# Altium integrated library Intersil DSP 24-Bit.IntLib: 10 symbols
Pins are listed as number, name and electrical type; pins without a type are passive.

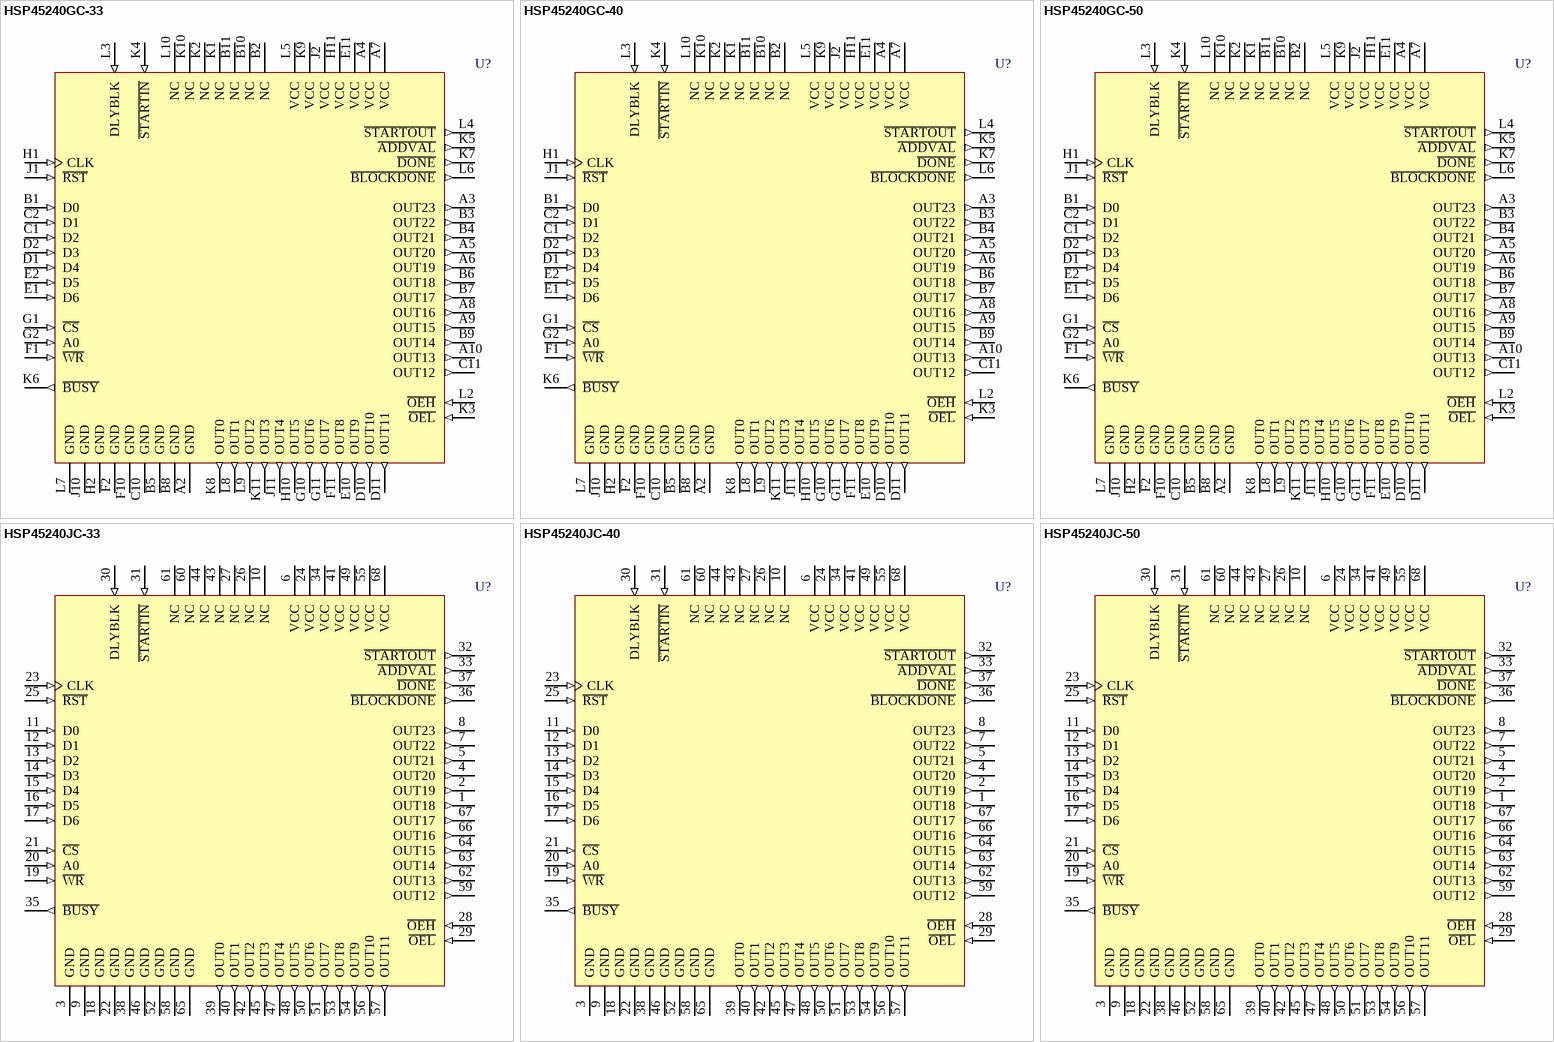
[diagram p0: symbols HSP45240GC-33 to HSP45240JC-50]

## HSP45240GC-33
designator U?
Address Sequencer; Published: 17-Jul-2002; LatestRevisionDate: 06-Jun-2005; LatestRevisionNote: Stylized 3D Model Added.; DatasheetVersion: Sep-1997; PackageVersion: Jun-1995; PackageReference: G68.A; Publisher: Altium Limited; PackageDescription: 68-Pin Pin Grid Array 2.54 mm Pitch; ComponentLink1Description: Manufacturer Link; ComponentLink1URL: http://www.intersil.com/cda/home/
footprint G68.A (PGA, 68-Leads, Body 29.5x29.5mm, Pitch 2.54mm)
3D model HSP45240-G68_A (68-Pin Pin Grid Array 2.54 mm Pitch)
pins: A2 GND (power), A3 OUT23 (out), A4 VCC (power), A5 OUT20 (out), A6 OUT19 (out), A7 VCC (power), A8 OUT16 (out), A9 OUT15 (out), A10 OUT13 (out), B1 D0 (in), B2 NC, B3 OUT22 (out), B4 OUT21 (out), B5 GND (power), B6 OUT18 (out), B7 OUT17 (out), B8 GND (power), B9 OUT14 (out), B10 NC, B11 NC, C1 D2 (in), C2 D1 (in), C10 GND (power), C11 OUT12 (out), D1 D4 (in), D2 D3 (in), D10 OUT10 (out), D11 OUT11 (out), E1 D6 (in), E2 D5 (in), E10 OUT9 (out), E11 VCC (power), F1 ~{WR} (in), F2 GND (power), F10 GND (power), F11 OUT8 (out), G1 ~{CS} (in), G2 A0 (in), G10 OUT6 (out), G11 OUT7 (out), H1 CLK (in), H2 GND (power), H10 OUT5 (out), H11 VCC (power), J1 ~{RST} (in), J2 VCC (power), J10 GND (power), J11 OUT4 (out), K1 NC, K2 NC, K3 ~{OEL} (in), K4 ~{STARTIN} (in), K5 ~{ADDVAL} (out), K6 ~{BUSY} (out), K7 ~{DONE} (out), K8 OUT0 (out), K9 VCC (power), K10 NC, K11 OUT3 (out), L2 ~{OEH} (in), L3 DLYBLK (in), L4 ~{STARTOUT} (out), L5 VCC (power), L6 ~{BLOCKDONE} (out), L7 GND (power), L8 OUT1 (out), L9 OUT2 (out), L10 NC

## HSP45240GC-40
designator U?
Address Sequencer; Published: 17-Jul-2002; LatestRevisionDate: 06-Jun-2005; LatestRevisionNote: Stylized 3D Model Added.; DatasheetVersion: Sep-1997; PackageVersion: Jun-1995; PackageReference: G68.A; Publisher: Altium Limited; PackageDescription: 68-Pin Pin Grid Array 2.54 mm Pitch; ComponentLink1Description: Manufacturer Link; ComponentLink1URL: http://www.intersil.com/cda/home/
footprint G68.A (PGA, 68-Leads, Body 29.5x29.5mm, Pitch 2.54mm)
3D model HSP45240-G68_A (68-Pin Pin Grid Array 2.54 mm Pitch)
pins: A2 GND (power), A3 OUT23 (out), A4 VCC (power), A5 OUT20 (out), A6 OUT19 (out), A7 VCC (power), A8 OUT16 (out), A9 OUT15 (out), A10 OUT13 (out), B1 D0 (in), B2 NC, B3 OUT22 (out), B4 OUT21 (out), B5 GND (power), B6 OUT18 (out), B7 OUT17 (out), B8 GND (power), B9 OUT14 (out), B10 NC, B11 NC, C1 D2 (in), C2 D1 (in), C10 GND (power), C11 OUT12 (out), D1 D4 (in), D2 D3 (in), D10 OUT10 (out), D11 OUT11 (out), E1 D6 (in), E2 D5 (in), E10 OUT9 (out), E11 VCC (power), F1 ~{WR} (in), F2 GND (power), F10 GND (power), F11 OUT8 (out), G1 ~{CS} (in), G2 A0 (in), G10 OUT6 (out), G11 OUT7 (out), H1 CLK (in), H2 GND (power), H10 OUT5 (out), H11 VCC (power), J1 ~{RST} (in), J2 VCC (power), J10 GND (power), J11 OUT4 (out), K1 NC, K2 NC, K3 ~{OEL} (in), K4 ~{STARTIN} (in), K5 ~{ADDVAL} (out), K6 ~{BUSY} (out), K7 ~{DONE} (out), K8 OUT0 (out), K9 VCC (power), K10 NC, K11 OUT3 (out), L2 ~{OEH} (in), L3 DLYBLK (in), L4 ~{STARTOUT} (out), L5 VCC (power), L6 ~{BLOCKDONE} (out), L7 GND (power), L8 OUT1 (out), L9 OUT2 (out), L10 NC

## HSP45240GC-50
designator U?
Address Sequencer; Published: 17-Jul-2002; LatestRevisionDate: 06-Jun-2005; LatestRevisionNote: Stylized 3D Model Added.; DatasheetVersion: Sep-1997; PackageVersion: Jun-1995; PackageReference: G68.A; Publisher: Altium Limited; PackageDescription: 68-Pin Pin Grid Array 2.54 mm Pitch; ComponentLink1Description: Manufacturer Link; ComponentLink1URL: http://www.intersil.com/cda/home/
footprint G68.A (PGA, 68-Leads, Body 29.5x29.5mm, Pitch 2.54mm)
3D model HSP45240-G68_A (68-Pin Pin Grid Array 2.54 mm Pitch)
pins: A2 GND (power), A3 OUT23 (out), A4 VCC (power), A5 OUT20 (out), A6 OUT19 (out), A7 VCC (power), A8 OUT16 (out), A9 OUT15 (out), A10 OUT13 (out), B1 D0 (in), B2 NC, B3 OUT22 (out), B4 OUT21 (out), B5 GND (power), B6 OUT18 (out), B7 OUT17 (out), B8 GND (power), B9 OUT14 (out), B10 NC, B11 NC, C1 D2 (in), C2 D1 (in), C10 GND (power), C11 OUT12 (out), D1 D4 (in), D2 D3 (in), D10 OUT10 (out), D11 OUT11 (out), E1 D6 (in), E2 D5 (in), E10 OUT9 (out), E11 VCC (power), F1 ~{WR} (in), F2 GND (power), F10 GND (power), F11 OUT8 (out), G1 ~{CS} (in), G2 A0 (in), G10 OUT6 (out), G11 OUT7 (out), H1 CLK (in), H2 GND (power), H10 OUT5 (out), H11 VCC (power), J1 ~{RST} (in), J2 VCC (power), J10 GND (power), J11 OUT4 (out), K1 NC, K2 NC, K3 ~{OEL} (in), K4 ~{STARTIN} (in), K5 ~{ADDVAL} (out), K6 ~{BUSY} (out), K7 ~{DONE} (out), K8 OUT0 (out), K9 VCC (power), K10 NC, K11 OUT3 (out), L2 ~{OEH} (in), L3 DLYBLK (in), L4 ~{STARTOUT} (out), L5 VCC (power), L6 ~{BLOCKDONE} (out), L7 GND (power), L8 OUT1 (out), L9 OUT2 (out), L10 NC

## HSP45240JC-33
designator U?
Address Sequencer; Published: 17-Jul-2002; LatestRevisionDate: 13-Apr-2006; LatestRevisionNote: IPC-7351 Footprint Added.; DatasheetVersion: Sep-1997; PackageVersion: Nov-1997; PackageReference: N68.95; Publisher: Altium Limited; PackageDescription: 68-Pin Leaded Chip Carrier 1.27 mm Pitch; Code_IPC: PLCC-68; ComponentLink1Description: Manufacturer Link; ComponentLink1URL: http://www.intersil.com/cda/home/
footprint N68.95_N (Leaded Chip Carrier, 68-Leads, Body 24x24mm, Pitch 1.27mm, IPC Medium Density)
footprint N68.95_L (Leaded Chip Carrier, 68-Leads, Body 24x24mm, Pitch 1.27mm, IPC High Density)
footprint N68.95_M (Leaded Chip Carrier, 68-Leads, Body 24x24mm, Pitch 1.27mm, IPC Low Density)
3D model HSP45240-N68_95 (68-Pin Leaded Chip Carrier 1.27 mm Pitch)
pins: 1 OUT18 (out), 2 OUT19 (out), 3 GND (power), 4 OUT20 (out), 5 OUT21 (out), 6 VCC (power), 7 OUT22 (out), 8 OUT23 (out), 9 GND (power), 10 NC, 11 D0 (in), 12 D1 (in), 13 D2 (in), 14 D3 (in), 15 D4 (in), 16 D5 (in), 17 D6 (in), 18 GND (power), 19 ~{WR} (in), 20 A0 (in), 21 ~{CS} (in), 22 GND (power), 23 CLK (in), 24 VCC (power), 25 ~{RST} (in), 26 NC, 27 NC, 28 ~{OEH} (in), 29 ~{OEL} (in), 30 DLYBLK (in), 31 ~{STARTIN} (in), 32 ~{STARTOUT} (out), 33 ~{ADDVAL} (out), 34 VCC (power), 35 ~{BUSY} (out), 36 ~{BLOCKDONE} (out), 37 ~{DONE} (out), 38 GND (power), 39 OUT0 (out), 40 OUT1 (out), 41 VCC (power), 42 OUT2 (out), 43 NC, 44 NC, 45 OUT3 (out), 46 GND (power), 47 OUT4 (out), 48 OUT5 (out), 49 VCC (power), 50 OUT6 (out), 51 OUT7 (out), 52 GND (power), 53 OUT8 (out), 54 OUT9 (out), 55 VCC (power), 56 OUT10 (out), 57 OUT11 (out), 58 GND (power), 59 OUT12 (out), 60 NC, 61 NC, 62 OUT13 (out), 63 OUT14 (out), 64 OUT15 (out), 65 GND (power), 66 OUT16 (out), 67 OUT17 (out), 68 VCC (power)

## HSP45240JC-40
designator U?
Address Sequencer; Published: 17-Jul-2002; LatestRevisionDate: 13-Apr-2006; LatestRevisionNote: IPC-7351 Footprint Added.; DatasheetVersion: Sep-1997; PackageVersion: Nov-1997; PackageReference: N68.95; Publisher: Altium Limited; PackageDescription: 68-Pin Leaded Chip Carrier 1.27 mm Pitch; Code_IPC: PLCC-68; ComponentLink1Description: Manufacturer Link; ComponentLink1URL: http://www.intersil.com/cda/home/
footprint N68.95_N (Leaded Chip Carrier, 68-Leads, Body 24x24mm, Pitch 1.27mm, IPC Medium Density)
footprint N68.95_L (Leaded Chip Carrier, 68-Leads, Body 24x24mm, Pitch 1.27mm, IPC High Density)
footprint N68.95_M (Leaded Chip Carrier, 68-Leads, Body 24x24mm, Pitch 1.27mm, IPC Low Density)
3D model HSP45240-N68_95 (68-Pin Leaded Chip Carrier 1.27 mm Pitch)
pins: 1 OUT18 (out), 2 OUT19 (out), 3 GND (power), 4 OUT20 (out), 5 OUT21 (out), 6 VCC (power), 7 OUT22 (out), 8 OUT23 (out), 9 GND (power), 10 NC, 11 D0 (in), 12 D1 (in), 13 D2 (in), 14 D3 (in), 15 D4 (in), 16 D5 (in), 17 D6 (in), 18 GND (power), 19 ~{WR} (in), 20 A0 (in), 21 ~{CS} (in), 22 GND (power), 23 CLK (in), 24 VCC (power), 25 ~{RST} (in), 26 NC, 27 NC, 28 ~{OEH} (in), 29 ~{OEL} (in), 30 DLYBLK (in), 31 ~{STARTIN} (in), 32 ~{STARTOUT} (out), 33 ~{ADDVAL} (out), 34 VCC (power), 35 ~{BUSY} (out), 36 ~{BLOCKDONE} (out), 37 ~{DONE} (out), 38 GND (power), 39 OUT0 (out), 40 OUT1 (out), 41 VCC (power), 42 OUT2 (out), 43 NC, 44 NC, 45 OUT3 (out), 46 GND (power), 47 OUT4 (out), 48 OUT5 (out), 49 VCC (power), 50 OUT6 (out), 51 OUT7 (out), 52 GND (power), 53 OUT8 (out), 54 OUT9 (out), 55 VCC (power), 56 OUT10 (out), 57 OUT11 (out), 58 GND (power), 59 OUT12 (out), 60 NC, 61 NC, 62 OUT13 (out), 63 OUT14 (out), 64 OUT15 (out), 65 GND (power), 66 OUT16 (out), 67 OUT17 (out), 68 VCC (power)

## HSP45240JC-50
designator U?
Address Sequencer; Published: 17-Jul-2002; LatestRevisionDate: 13-Apr-2006; LatestRevisionNote: IPC-7351 Footprint Added.; DatasheetVersion: Sep-1997; PackageVersion: Nov-1997; PackageReference: N68.95; Publisher: Altium Limited; PackageDescription: 68-Pin Leaded Chip Carrier 1.27 mm Pitch; Code_IPC: PLCC-68; ComponentLink1Description: Manufacturer Link; ComponentLink1URL: http://www.intersil.com/cda/home/
footprint N68.95_N (Leaded Chip Carrier, 68-Leads, Body 24x24mm, Pitch 1.27mm, IPC Medium Density)
footprint N68.95_L (Leaded Chip Carrier, 68-Leads, Body 24x24mm, Pitch 1.27mm, IPC High Density)
footprint N68.95_M (Leaded Chip Carrier, 68-Leads, Body 24x24mm, Pitch 1.27mm, IPC Low Density)
3D model HSP45240-N68_95 (68-Pin Leaded Chip Carrier 1.27 mm Pitch)
pins: 1 OUT18 (out), 2 OUT19 (out), 3 GND (power), 4 OUT20 (out), 5 OUT21 (out), 6 VCC (power), 7 OUT22 (out), 8 OUT23 (out), 9 GND (power), 10 NC, 11 D0 (in), 12 D1 (in), 13 D2 (in), 14 D3 (in), 15 D4 (in), 16 D5 (in), 17 D6 (in), 18 GND (power), 19 ~{WR} (in), 20 A0 (in), 21 ~{CS} (in), 22 GND (power), 23 CLK (in), 24 VCC (power), 25 ~{RST} (in), 26 NC, 27 NC, 28 ~{OEH} (in), 29 ~{OEL} (in), 30 DLYBLK (in), 31 ~{STARTIN} (in), 32 ~{STARTOUT} (out), 33 ~{ADDVAL} (out), 34 VCC (power), 35 ~{BUSY} (out), 36 ~{BLOCKDONE} (out), 37 ~{DONE} (out), 38 GND (power), 39 OUT0 (out), 40 OUT1 (out), 41 VCC (power), 42 OUT2 (out), 43 NC, 44 NC, 45 OUT3 (out), 46 GND (power), 47 OUT4 (out), 48 OUT5 (out), 49 VCC (power), 50 OUT6 (out), 51 OUT7 (out), 52 GND (power), 53 OUT8 (out), 54 OUT9 (out), 55 VCC (power), 56 OUT10 (out), 57 OUT11 (out), 58 GND (power), 59 OUT12 (out), 60 NC, 61 NC, 62 OUT13 (out), 63 OUT14 (out), 64 OUT15 (out), 65 GND (power), 66 OUT16 (out), 67 OUT17 (out), 68 VCC (power)

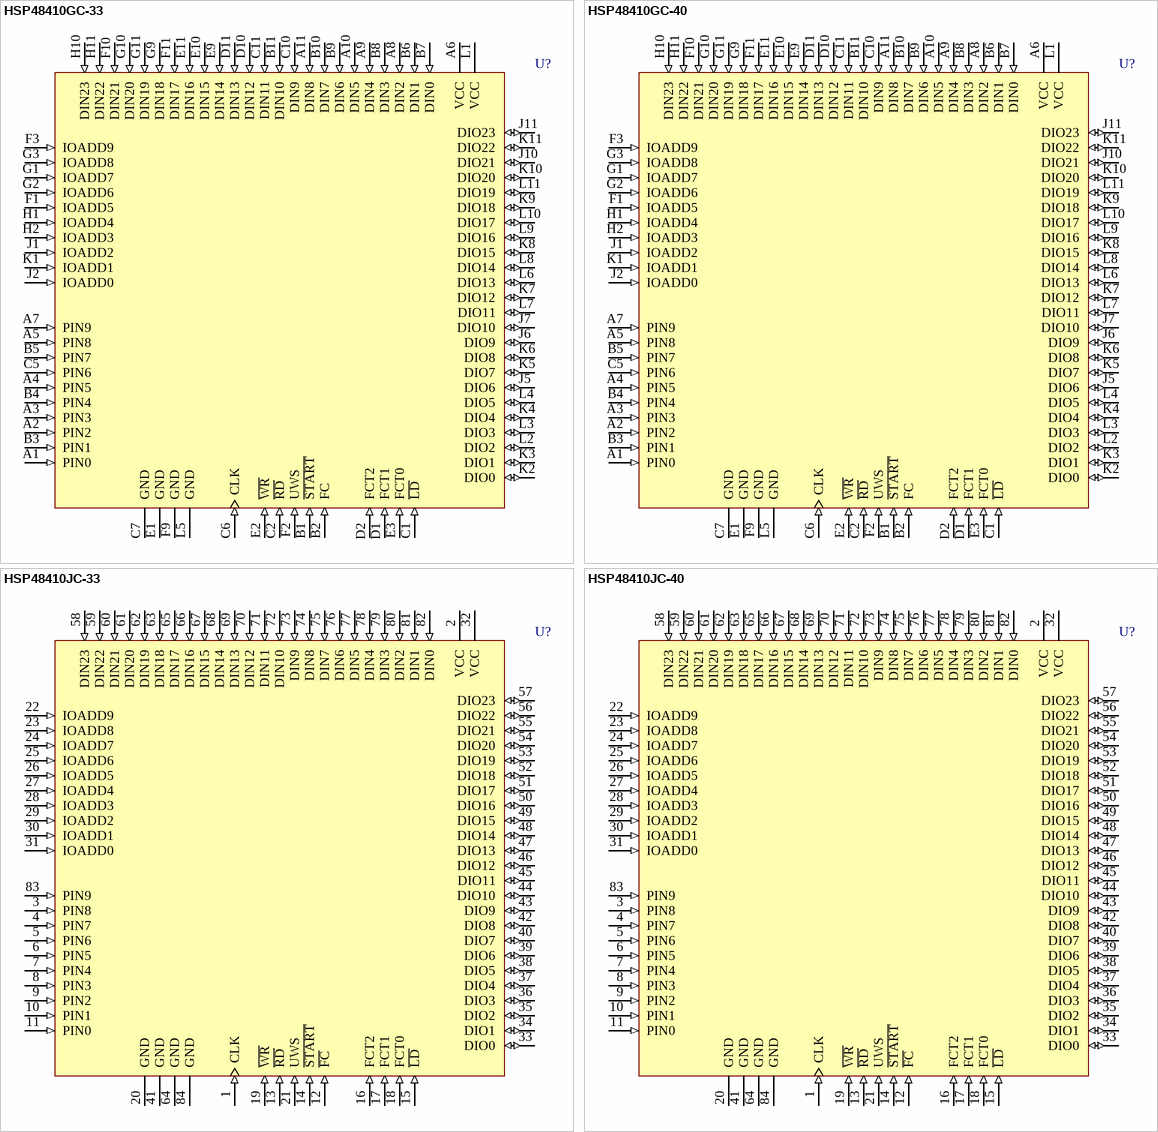
[diagram p1: symbols HSP48410GC-33 to HSP48410JC-40]

## HSP48410GC-33
designator U?
Histogrammer/Accumulating Buffer; Published: 17-Jul-2002; LatestRevisionDate: 06-Jun-2005; LatestRevisionNote: Stylized 3D Model Added.; DatasheetVersion: May-1999; PackageVersion: Jun-1995; PackageReference: G84.A; Publisher: Altium Limited; PackageDescription: 84-Pin Pin Grid Array 2.54 mm Pitch; ComponentLink1Description: Manufacturer Link; ComponentLink1URL: http://www.intersil.com/cda/home/
footprint G84.A (PGA, 84-Leads, Body 29.5x29.5mm, Pitch 2.54mm)
3D model HSP48410-G84_A (84-Pin Pin Grid Array 2.54 mm Pitch)
pins: A1 PIN0 (in), A2 PIN2 (in), A3 PIN3 (in), A4 PIN5 (in), A5 PIN8 (in), A6 VCC (power), A7 PIN9 (in), A8 DIN2 (in), A9 DIN4 (in), A10 DIN5 (in), A11 DIN8 (in), B1 ~{START} (in), B2 FC (in), B3 PIN1 (in), B4 PIN4 (in), B5 PIN7 (in), B6 DIN1 (in), B7 DIN0 (in), B8 DIN3 (in), B9 DIN6 (in), B10 DIN7 (in), B11 DIN10 (in), C1 ~{LD} (in), C2 ~{RD} (in), C5 PIN6 (in), C6 CLK (in), C7 GND (power), C10 DIN9 (in), C11 DIN11 (in), D1 FCT1 (in), D2 FCT2 (in), D10 DIN12 (in), D11 DIN13 (in), E1 GND (power), E2 ~{WR} (in), E3 FCT0 (in), E9 DIN14 (in), E10 DIN15 (in), E11 DIN16 (in), F1 IOADD5 (in), F2 UWS (in), F3 IOADD9 (in), F9 GND (power), F10 DIN21 (in), F11 DIN17 (in), G1 IOADD7 (in), G2 IOADD6 (in), G3 IOADD8 (in), G9 DIN18 (in), G10 DIN20 (in), G11 DIN19 (in), H1 IOADD4 (in), H2 IOADD3 (in), H10 DIN23 (in), H11 DIN22 (in), J1 IOADD2 (in), J2 IOADD0 (in), J5 DIO6 (io), J6 DIO9 (io), J7 DIO10 (io), J10 DIO21 (io), J11 DIO23 (io), K1 IOADD1 (in), K2 DIO0 (io), K3 DIO1 (io), K4 DIO4 (io), K5 DIO7 (io), K6 DIO8 (io), K7 DIO12 (io), K8 DIO15 (io), K9 DIO18 (io), K10 DIO20 (io), K11 DIO22 (io), L1 VCC (power), L2 DIO2 (io), L3 DIO3 (io), L4 DIO5 (io), L5 GND (power), L6 DIO13 (io), L7 DIO11 (io), L8 DIO14 (io), L9 DIO16 (io), L10 DIO17 (io), L11 DIO19 (io)

## HSP48410GC-40
designator U?
Histogrammer/Accumulating Buffer; Published: 17-Jul-2002; LatestRevisionDate: 06-Jun-2005; LatestRevisionNote: Stylized 3D Model Added.; DatasheetVersion: May-1999; PackageVersion: Jun-1995; PackageReference: G84.A; Publisher: Altium Limited; PackageDescription: 84-Pin Pin Grid Array 2.54 mm Pitch; ComponentLink1Description: Manufacturer Link; ComponentLink1URL: http://www.intersil.com/cda/home/
footprint G84.A (PGA, 84-Leads, Body 29.5x29.5mm, Pitch 2.54mm)
3D model HSP48410-G84_A (84-Pin Pin Grid Array 2.54 mm Pitch)
pins: A1 PIN0 (in), A2 PIN2 (in), A3 PIN3 (in), A4 PIN5 (in), A5 PIN8 (in), A6 VCC (power), A7 PIN9 (in), A8 DIN2 (in), A9 DIN4 (in), A10 DIN5 (in), A11 DIN8 (in), B1 ~{START} (in), B2 FC (in), B3 PIN1 (in), B4 PIN4 (in), B5 PIN7 (in), B6 DIN1 (in), B7 DIN0 (in), B8 DIN3 (in), B9 DIN6 (in), B10 DIN7 (in), B11 DIN10 (in), C1 ~{LD} (in), C2 ~{RD} (in), C5 PIN6 (in), C6 CLK (in), C7 GND (power), C10 DIN9 (in), C11 DIN11 (in), D1 FCT1 (in), D2 FCT2 (in), D10 DIN12 (in), D11 DIN13 (in), E1 GND (power), E2 ~{WR} (in), E3 FCT0 (in), E9 DIN14 (in), E10 DIN15 (in), E11 DIN16 (in), F1 IOADD5 (in), F2 UWS (in), F3 IOADD9 (in), F9 GND (power), F10 DIN21 (in), F11 DIN17 (in), G1 IOADD7 (in), G2 IOADD6 (in), G3 IOADD8 (in), G9 DIN18 (in), G10 DIN20 (in), G11 DIN19 (in), H1 IOADD4 (in), H2 IOADD3 (in), H10 DIN23 (in), H11 DIN22 (in), J1 IOADD2 (in), J2 IOADD0 (in), J5 DIO6 (io), J6 DIO9 (io), J7 DIO10 (io), J10 DIO21 (io), J11 DIO23 (io), K1 IOADD1 (in), K2 DIO0 (io), K3 DIO1 (io), K4 DIO4 (io), K5 DIO7 (io), K6 DIO8 (io), K7 DIO12 (io), K8 DIO15 (io), K9 DIO18 (io), K10 DIO20 (io), K11 DIO22 (io), L1 VCC (power), L2 DIO2 (io), L3 DIO3 (io), L4 DIO5 (io), L5 GND (power), L6 DIO13 (io), L7 DIO11 (io), L8 DIO14 (io), L9 DIO16 (io), L10 DIO17 (io), L11 DIO19 (io)

## HSP48410JC-33
designator U?
Histogrammer/Accumulating Buffer; Published: 17-Jul-2002; LatestRevisionDate: 13-Apr-2006; LatestRevisionNote: IPC-7351 Footprint Added.; DatasheetVersion: May-1999; PackageVersion: Nov-1997; PackageReference: N84.1.15; Publisher: Altium Limited; PackageDescription: 84-Pin Leaded Chip Carrier 1.27 mm Pitch; Code_IPC: PLCC-84; ComponentLink1Description: Manufacturer Link; ComponentLink1URL: http://www.intersil.com/cda/home/
footprint N84.1.15_N (Leaded Chip Carrier, 84-Leads, Body 29.3x29.3mm, Pitch 1.27mm, IPC Medium Density)
footprint N84.1.15_L (Leaded Chip Carrier, 84-Leads, Body 29.3x29.3mm, Pitch 1.27mm, IPC High Density)
footprint N84.1.15_M (Leaded Chip Carrier, 84-Leads, Body 29.3x29.3mm, Pitch 1.27mm, IPC Low Density)
3D model HSP48410-N84_1_15 (84-Pin Leaded Chip Carrier 1.27 mm Pitch)
pins: 1 CLK (in), 2 VCC (power), 3 PIN8 (in), 4 PIN7 (in), 5 PIN6 (in), 6 PIN5 (in), 7 PIN4 (in), 8 PIN3 (in), 9 PIN2 (in), 10 PIN1 (in), 11 PIN0 (in), 12 ~{FC} (in), 13 ~{RD} (in), 14 ~{START} (in), 15 ~{LD} (in), 16 FCT2 (in), 17 FCT1 (in), 18 FCT0 (in), 19 ~{WR} (in), 20 GND (power), 21 UWS (in), 22 IOADD9 (in), 23 IOADD8 (in), 24 IOADD7 (in), 25 IOADD6 (in), 26 IOADD5 (in), 27 IOADD4 (in), 28 IOADD3 (in), 29 IOADD2 (in), 30 IOADD1 (in), 31 IOADD0 (in), 32 VCC (power), 33 DIO0 (io), 34 DIO1 (io), 35 DIO2 (io), 36 DIO3 (io), 37 DIO4 (io), 38 DIO5 (io), 39 DIO6 (io), 40 DIO7 (io), 41 GND (power), 42 DIO8 (io), 43 DIO9 (io), 44 DIO10 (io), 45 DIO11 (io), 46 DIO12 (io), 47 DIO13 (io), 48 DIO14 (io), 49 DIO15 (io), 50 DIO16 (io), 51 DIO17 (io), 52 DIO18 (io), 53 DIO19 (io), 54 DIO20 (io), 55 DIO21 (io), 56 DIO22 (io), 57 DIO23 (io), 58 DIN23 (in), 59 DIN22 (in), 60 DIN21 (in), 61 DIN20 (in), 62 DIN19 (in), 63 DIN18 (in), 64 GND (power), 65 DIN17 (in), 66 DIN16 (in), 67 DIN15 (in), 68 DIN14 (in), 69 DIN13 (in), 70 DIN12 (in), 71 DIN11 (in), 72 DIN10 (in), 73 DIN9 (in), 74 DIN8 (in), 75 DIN7 (in), 76 DIN6 (in), 77 DIN5 (in), 78 DIN4 (in), 79 DIN3 (in), 80 DIN2 (in), 81 DIN1 (in), 82 DIN0 (in), 83 PIN9 (in), 84 GND (power)

## HSP48410JC-40
designator U?
Histogrammer/Accumulating Buffer; Published: 17-Jul-2002; LatestRevisionDate: 13-Apr-2006; LatestRevisionNote: IPC-7351 Footprint Added.; DatasheetVersion: May-1999; PackageVersion: Nov-1997; PackageReference: N84.1.15; Publisher: Altium Limited; PackageDescription: 84-Pin Leaded Chip Carrier 1.27 mm Pitch; Code_IPC: PLCC-84; ComponentLink1Description: Manufacturer Link; ComponentLink1URL: http://www.intersil.com/cda/home/
footprint N84.1.15_N (Leaded Chip Carrier, 84-Leads, Body 29.3x29.3mm, Pitch 1.27mm, IPC Medium Density)
footprint N84.1.15_L (Leaded Chip Carrier, 84-Leads, Body 29.3x29.3mm, Pitch 1.27mm, IPC High Density)
footprint N84.1.15_M (Leaded Chip Carrier, 84-Leads, Body 29.3x29.3mm, Pitch 1.27mm, IPC Low Density)
3D model HSP48410-N84_1_15 (84-Pin Leaded Chip Carrier 1.27 mm Pitch)
pins: 1 CLK (in), 2 VCC (power), 3 PIN8 (in), 4 PIN7 (in), 5 PIN6 (in), 6 PIN5 (in), 7 PIN4 (in), 8 PIN3 (in), 9 PIN2 (in), 10 PIN1 (in), 11 PIN0 (in), 12 ~{FC} (in), 13 ~{RD} (in), 14 ~{START} (in), 15 ~{LD} (in), 16 FCT2 (in), 17 FCT1 (in), 18 FCT0 (in), 19 ~{WR} (in), 20 GND (power), 21 UWS (in), 22 IOADD9 (in), 23 IOADD8 (in), 24 IOADD7 (in), 25 IOADD6 (in), 26 IOADD5 (in), 27 IOADD4 (in), 28 IOADD3 (in), 29 IOADD2 (in), 30 IOADD1 (in), 31 IOADD0 (in), 32 VCC (power), 33 DIO0 (io), 34 DIO1 (io), 35 DIO2 (io), 36 DIO3 (io), 37 DIO4 (io), 38 DIO5 (io), 39 DIO6 (io), 40 DIO7 (io), 41 GND (power), 42 DIO8 (io), 43 DIO9 (io), 44 DIO10 (io), 45 DIO11 (io), 46 DIO12 (io), 47 DIO13 (io), 48 DIO14 (io), 49 DIO15 (io), 50 DIO16 (io), 51 DIO17 (io), 52 DIO18 (io), 53 DIO19 (io), 54 DIO20 (io), 55 DIO21 (io), 56 DIO22 (io), 57 DIO23 (io), 58 DIN23 (in), 59 DIN22 (in), 60 DIN21 (in), 61 DIN20 (in), 62 DIN19 (in), 63 DIN18 (in), 64 GND (power), 65 DIN17 (in), 66 DIN16 (in), 67 DIN15 (in), 68 DIN14 (in), 69 DIN13 (in), 70 DIN12 (in), 71 DIN11 (in), 72 DIN10 (in), 73 DIN9 (in), 74 DIN8 (in), 75 DIN7 (in), 76 DIN6 (in), 77 DIN5 (in), 78 DIN4 (in), 79 DIN3 (in), 80 DIN2 (in), 81 DIN1 (in), 82 DIN0 (in), 83 PIN9 (in), 84 GND (power)